# EAGLE library part SSQ-115-02-T-D-RA (library SamacSys_Parts)
CONN RECEPTACLE, 2.54MM, R/A DUAL 30WAY Source: Datasheet <http://suddendocs.samtec.com/catalog_english/ssq_th.pdf>
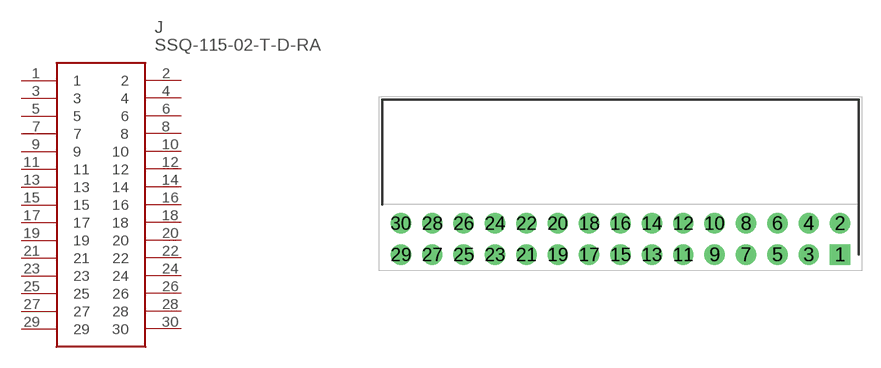
[diagram p2: symbol with the pads of RHDRRA30W64P254_2X15_3861X851X; footprint RHDRRA30W64P254_2X15_3861X851X]

Designator prefix J

## SSQ-115-02-T-D-RA (DESCRIPTION: CONN RECEPTACLE, 2.54MM, R/A DUAL 30WAY; HEIGHT: 4.95mm; MANUFACTURER_NAME: SAMTEC; MANUFACTURER_PART_NUMBER: SSQ-115-02-T-D-RA; MOUSER_PART_NUMBER: 200-SSQ11502TDRA; MOUSER_PRICE-STOCK: https://www.mouser.co.uk/ProductDetail/Samtec/SSQ-115-02-T-D-RA?qs=rU5fayqh%252BE2UN30xyNQdAQ%3D%3D)  [RHDRRA30W64P254_2X15_3861X851X]
1  1
2  2
3  3
4  4
5  5
6  6
7  7
8  8
9  9
10  10
11  11
12  12
13  13
14  14
15  15
16  16
17  17
18  18
19  19
20  20
21  21
22  22
23  23
24  24
25  25
26  26
27  27
28  28
29  29
30  30

## Footprint RHDRRA30W64P254_2X15_3861X851X (pad centres in mm)
SSQ-115-02-T-D-RA
drill 1.1 pad 1.65 square: 1 0,0
drill 1.1 pad 1.65: 2 0,2.54; 3 -2.54,0; 4 -2.54,2.54; 5 -5.08,0; 6 -5.08,2.54; 7 -7.62,0; 8 -7.62,2.54; 9 -10.16,0; 10 -10.16,2.54; 11 -12.7,0; 12 -12.7,2.54; 13 -15.24,0; 14 -15.24,2.54; 15 -17.78,0; 16 -17.78,2.54; 17 -20.32,0; 18 -20.32,2.54; 19 -22.86,0; 20 -22.86,2.54; 21 -25.4,0; 22 -25.4,2.54; 23 -27.94,0; 24 -27.94,2.54; 25 -30.48,0; 26 -30.48,2.54; 27 -33.02,0; 28 -33.02,2.54; 29 -35.56,0; 30 -35.56,2.54